# Altium footprint library Custom components.PcbLib: 5 footprints
Each footprint in its own frame and in the unit in brackets; x right, y up, seen from the top. Pads: shape width x height; smd on the part's side, far side on the other; paste and mask are expansions set on the pad; w line width, h text height; cw(c..) or ccw(c..) is an arc to the next point about the centre after c.
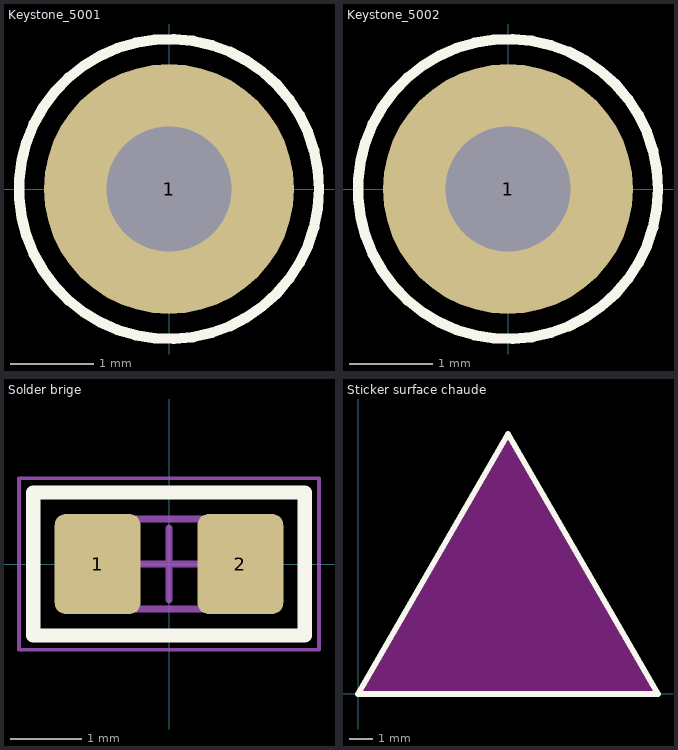
[diagram p0: the footprints below, top view; thin cyan lines are the x and y axes]

## Designator [mm]
Top Overlay:
  text ".Designator" at 0.254,0.762 h1.52
Top Assembly:
  text ".Comment" at 0.254,-1.397 h1.52

## Keystone_5001 [mm]
height 1.1
pads (1):
  round 3 hole 1.5 paste-100: 1(0,0)
Top Overlay:
  circle w0.125: c0,0 r1.8
Top Assembly:
  text ".Comment" at 2,-1 h1.2
3D body "TP-Keystone-5001-Black.stp": height 4.57, standoff -3.05, extent -1.27,-1.27 1.27,1.27

## Keystone_5002 [mm]
height 1.1
pads (1):
  round 3 hole 1.5 paste-100: 1(0,0)
Top Overlay:
  circle w0.125: c0,0 r1.8
Top Assembly:
  text ".Comment" at 2,-1 h1.2
3D body "TP-Keystone-5001-Black.stp": height 4.57, standoff -3.05, extent -1.27,-1.27 1.27,1.27

## Solder brige [mm] "Chip Resistor, 2-Leads, Body 2.00x1.25mm, IPC Low Density"
height 0.6
pads (2):
  rrect25% 1.2x1.4 smd: 1(-1,0) 2(1,0)
Top Overlay:
  lines w0.2: -1.9,-1 -1.9,1 1.9,1 1.9,-1 -1.9,-1
Top Assembly:
  lines w0.1: -1.05,-0.63 -1.05,0.63 1.05,0.63 1.05,-0.63 -1.05,-0.63
Top Courtyard:
  lines w0.05: -2.1,-1.2 -2.1,1.2 2.1,1.2 2.1,-1.2 -2.1,-1.2
  lines w0.1: -0.5,0 0.5,0 ; 0,-0.5 0,0.5
3D body "RESC2012X06M.step": height 0.6, standoff 0, extent -1.05,-0.63 1.05,0.63

## Sticker surface chaude [mm]
Top Layer keep-out:
  region: 0,0 12.7,0 10.414,3.937 6.35,10.922 2.032,3.556
Top Overlay:
  lines w0.254: 0,0 6.35,10.998 12.7,0 0,0
  text ".Designator" at 0.254,-2.159 h1.52
Top Assembly:
  text ".Comment" at 2.877,1.936 h1